# EAGLE library part SD-AKI-C00753 (library sd-card)
SD Card slot C-00753 Manufacturer: Unknown Distributor: Akizuki denshi DataSheet: http://akizukidenshi.com/catalog/g/gC-00753/ Remarks: @150 © afwan 2009/01 afwan717-right@yahoo.co.jp
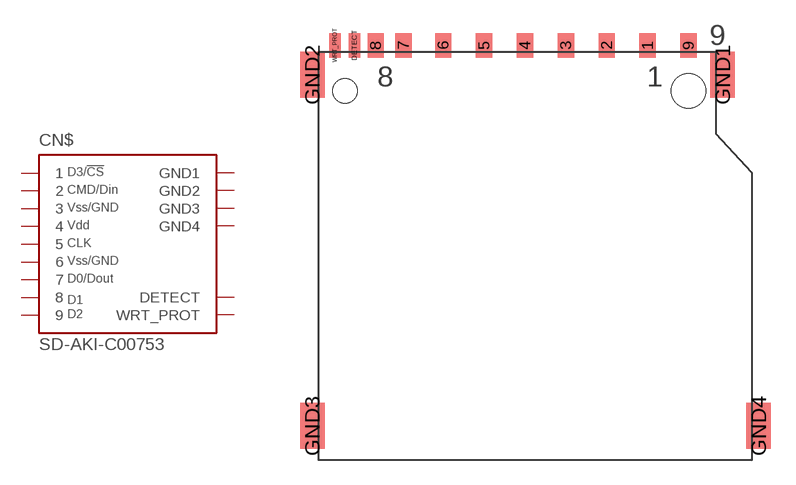
[diagram p1: symbol with the pads of C-1734234; footprint C-1734234]

Designator prefix CN$

## SD-AKI-C00753  [C-1734234]
1  1
2  2  in
3  3  pwr
4  4  pwr
5  5  in
6  6  pwr
7  7
8  8
9  9
DETECT  DETECT  out
GND1  GND1  pwr
GND2  GND2  pwr
GND3  GND3  pwr
GND4  GND4  pwr
WRT_PROT  WRT_PROT  out

## Footprint C-1734234 (pad centres in mm)
smd 1 x 1.5: 1 -2.5,0; 2 -5,0; 3 -7.5,0; 4 -10,0; 5 -12.5,0; 6 -15,0; 7 -17.425,0; 8 -19.125,0; 9 0,0
smd 0.7 x 1.5: DETECT -20.425,0; WRT_PROT -21.625,0
smd 1.5 x 2.8: GND1 2.093,-1.8; GND2 -23.007,-1.8; GND3 -23.007,-23.3; GND4 4.293,-23.3
hole 1.5 at -21,-2.8
hole 2.1 at 0,-2.8